# Altium schematic symbol library LINESTYLE_TEST.SchLib: 1 symbol
Pins are listed as number, name and electrical type; pins without a type are passive.

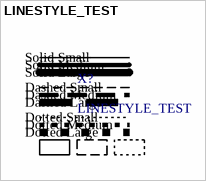
[diagram p0: symbol LINESTYLE_TEST]

## LINESTYLE_TEST
designator X?
Test solid/dashed/dotted line styles
text: Solid Small; Solid Medium; Solid Large; Dashed Small; Dashed Medium; Dashed Large; Dotted Small; Dotted Medium; Dotted Large